# EAGLE library part JTAG-SIL (library connectors)
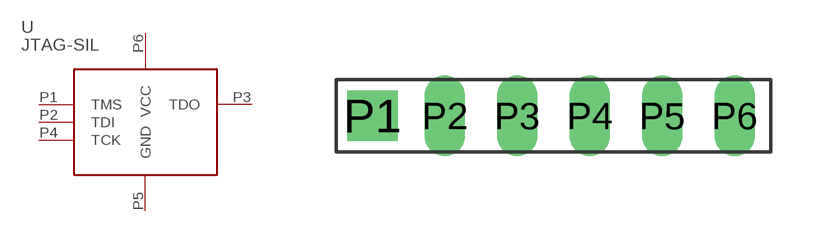
[diagram p0: symbol with the pads of JTAG-SIL; footprint JTAG-SIL]

Designator prefix -

## JTAG-SIL  [JTAG-SIL]
P1  TMS
P2  TDI  out
P3  TDO  in
P4  TCK  out
P5  GND  pwr
P6  VCC  pwr

## Footprint JTAG-SIL (pad centres in mm)
drill 0.813 pad 1.778 square: P1 -6.35,0
drill 0.813 pad 1.422 long: P2 -3.81,0; P3 -1.27,0; P4 1.27,0; P5 3.81,0; P6 6.35,0